# EAGLE library part ET60T-04-24-04-X-RTX-GP (library ET60T-04-24-04-X-RTX-GP)
R/A PLUG TEN60 POWER ASSEM.
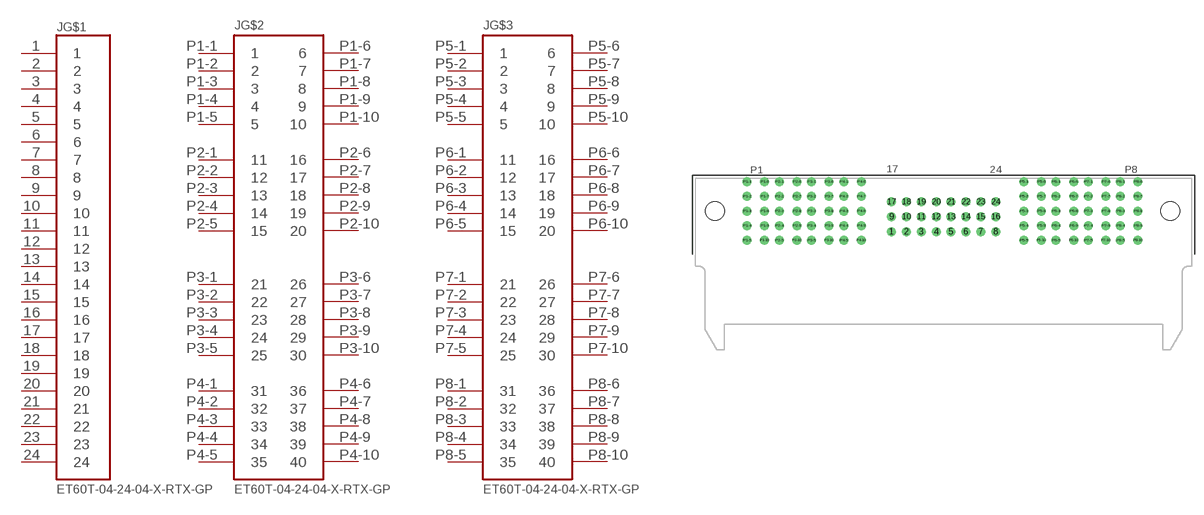
[diagram p0: symbol with the pads of ET60T-02-24-02-X-RTX-GP; footprint ET60T-02-24-02-X-RTX-GP]

Designator prefix J; gates G$1=ET60T-04-24-04-X-RTX-GP-A G$2=ET60T-04-24-04-X-RTX-GP-B G$3=ET60T-04-24-04-X-RTX-GP-B

## ET60T-04-24-04-X-RTX-GP  [ET60T-02-24-02-X-RTX-GP]
1  G$1:1
2  G$1:2
3  G$1:3
4  G$1:4
5  G$1:5
6  G$1:6
7  G$1:7
8  G$1:8
9  G$1:9
10  G$1:10
11  G$1:11
12  G$1:12
13  G$1:13
14  G$1:14
15  G$1:15
16  G$1:16
17  G$1:17
18  G$1:18
19  G$1:19
20  G$1:20
21  G$1:21
22  G$1:22
23  G$1:23
24  G$1:24
P1-1  G$2:1
P1-2  G$2:2
P1-3  G$2:3
P1-4  G$2:4
P1-5  G$2:5
P1-6  G$2:6
P1-7  G$2:7
P1-8  G$2:8
P1-9  G$2:9
P1-10  G$2:10
P2-1  G$2:11
P2-2  G$2:12
P2-3  G$2:13
P2-4  G$2:14
P2-5  G$2:15
P2-6  G$2:16
P2-7  G$2:17
P2-8  G$2:18
P2-9  G$2:19
P2-10  G$2:20
P3-1  G$2:21
P3-2  G$2:22
P3-3  G$2:23
P3-4  G$2:24
P3-5  G$2:25
P3-6  G$2:26
P3-7  G$2:27
P3-8  G$2:28
P3-9  G$2:29
P3-10  G$2:30
P4-1  G$2:31
P4-2  G$2:32
P4-3  G$2:33
P4-4  G$2:34
P4-5  G$2:35
P4-6  G$2:36
P4-7  G$2:37
P4-8  G$2:38
P4-9  G$2:39
P4-10  G$2:40
P5-1  G$3:1
P5-2  G$3:2
P5-3  G$3:3
P5-4  G$3:4
P5-5  G$3:5
P5-6  G$3:6
P5-7  G$3:7
P5-8  G$3:8
P5-9  G$3:9
P5-10  G$3:10
P6-1  G$3:11
P6-2  G$3:12
P6-3  G$3:13
P6-4  G$3:14
P6-5  G$3:15
P6-6  G$3:16
P6-7  G$3:17
P6-8  G$3:18
P6-9  G$3:19
P6-10  G$3:20
P7-1  G$3:21
P7-2  G$3:22
P7-3  G$3:23
P7-4  G$3:24
P7-5  G$3:25
P7-6  G$3:26
P7-7  G$3:27
P7-8  G$3:28
P7-9  G$3:29
P7-10  G$3:30
P8-1  G$3:31
P8-2  G$3:32
P8-3  G$3:33
P8-4  G$3:34
P8-5  G$3:35
P8-6  G$3:36
P8-7  G$3:37
P8-8  G$3:38
P8-9  G$3:39
P8-10  G$3:40

## Footprint ET60T-02-24-02-X-RTX-GP (pad centres in mm)
R/A PLUG TEN60 POWER ASSEM.
drill 1.02 pad 1.5 round: 1 -8.89,4.4; 2 -6.35,4.4; 3 -3.81,4.4; 4 -1.27,4.4; 5 1.27,4.4; 6 3.81,4.4; 7 6.35,4.4; 8 8.89,4.4; 9 -8.89,6.94; 10 -6.35,6.94; 11 -3.81,6.94; 12 -1.27,6.94; 13 1.27,6.94; 14 3.81,6.94; 15 6.35,6.94; 16 8.89,6.94; 17 -8.89,9.48; 18 -6.35,9.48; 19 -3.81,9.48; 20 -1.27,9.48; 21 1.27,9.48; 22 3.81,9.48; 23 6.35,9.48; 24 8.89,9.48; P1-1 -33.56,12.9; P1-2 -33.56,10.4; P1-3 -33.56,7.9; P1-4 -33.56,5.4; P1-5 -33.56,2.9; P1-6 -30.56,12.9; P1-7 -30.56,10.4; P1-8 -30.56,7.9; P1-9 -30.56,5.4; P1-10 -30.56,2.9; P2-1 -28.06,12.9; P2-2 -28.06,10.4; P2-3 -28.06,7.9; P2-4 -28.06,5.4; P2-5 -28.06,2.9; P2-6 -25.06,12.9; P2-7 -25.06,10.4; P2-8 -25.06,7.9; P2-9 -25.06,5.4; P2-10 -25.06,2.9; P3-1 -22.56,12.9; P3-2 -22.56,10.4; P3-3 -22.56,7.9; P3-4 -22.56,5.4; P3-5 -22.56,2.9; P3-6 -19.56,12.9; P3-7 -19.56,10.4; P3-8 -19.56,7.9; P3-9 -19.56,5.4; P3-10 -19.56,2.9; P4-1 -17.06,12.9; P4-2 -17.06,10.4; P4-3 -17.06,7.9; P4-4 -17.06,5.4; P4-5 -17.06,2.9; P4-6 -14.06,12.9; P4-7 -14.06,10.4; P4-8 -14.06,7.9; P4-9 -14.06,5.4; P4-10 -14.06,2.9; P5-1 13.7,12.9; P5-2 13.7,10.4; P5-3 13.7,7.9; P5-4 13.7,5.4; P5-5 13.7,2.9; P5-6 16.7,12.9; P5-7 16.7,10.4; P5-8 16.7,7.9; P5-9 16.7,5.4; P5-10 16.7,2.9; P6-1 19.2,12.9; P6-2 19.2,10.4; P6-3 19.2,7.9; P6-4 19.2,5.4; P6-5 19.2,2.9; P6-6 22.2,12.9; P6-7 22.2,10.4; P6-8 22.2,7.9; P6-9 22.2,5.4; P6-10 22.2,2.9; P7-1 24.7,12.9; P7-2 24.7,10.4; P7-3 24.7,7.9; P7-4 24.7,5.4; P7-5 24.7,2.9; P7-6 27.7,12.9; P7-7 27.7,10.4; P7-8 27.7,7.9; P7-9 27.7,5.4; P7-10 27.7,2.9; P8-1 30.2,12.9; P8-2 30.2,10.4; P8-3 30.2,7.9; P8-4 30.2,5.4; P8-5 30.2,2.9; P8-6 33.2,12.9; P8-7 33.2,10.4; P8-8 33.2,7.9; P8-9 33.2,5.4; P8-10 33.2,2.9
hole 3.2 at -39.06,7.9
hole 3.2 at 38.7,7.9